# EAGLE library part BQ24616 (library ruark2)
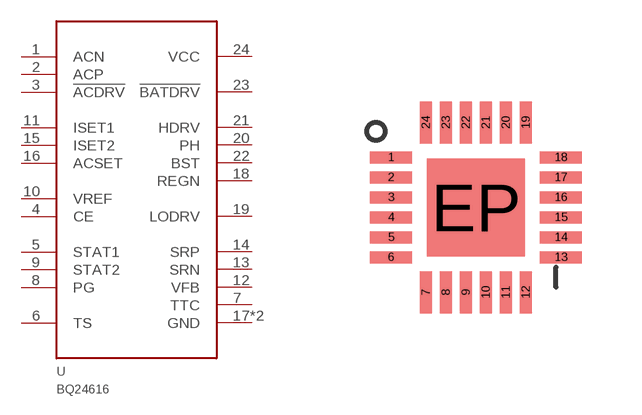
[diagram p112: symbol with the pads of QFN24-44_TI; footprint QFN24-44_TI]

Designator prefix U

## BQ24616  [QFN24-44_TI]
1  ACN
2  ACP
3  !ACDRV
4  CE
5  STAT1
6  TS
7  TTC
8  PG
9  STAT2
10  VREF
11  ISET1
12  VFB
13  SRN
14  SRP
15  ISET2
16  ACSET
17  GND
18  REGN
19  LODRV
20  PH
21  HDRV
22  BST
23  !BATDRV
24  VCC
EP  GND

## Footprint QFN24-44_TI (pad centres in mm)
smd 1.05 x 0.3: 1 -2.125,1.25; 2 -2.125,0.75; 3 -2.125,0.25; 4 -2.125,-0.25; 5 -2.125,-0.75; 6 -2.125,-1.25; 13 2.125,-1.25; 14 2.125,-0.75; 15 2.125,-0.25; 16 2.125,0.25; 17 2.125,0.75; 18 2.125,1.25
smd 0.3 x 1.05: 7 -1.25,-2.125; 8 -0.75,-2.125; 9 -0.25,-2.125; 10 0.25,-2.125; 11 0.75,-2.125; 12 1.25,-2.125; 19 1.25,2.125; 20 0.75,2.125; 21 0.25,2.125; 22 -0.25,2.125; 23 -0.75,2.125; 24 -1.25,2.125
smd 2.45 x 2.45: EP 0,0